# Altium schematic symbol library SEMATIK_LIB.SchLib: 632 symbols (part 21 of 21)
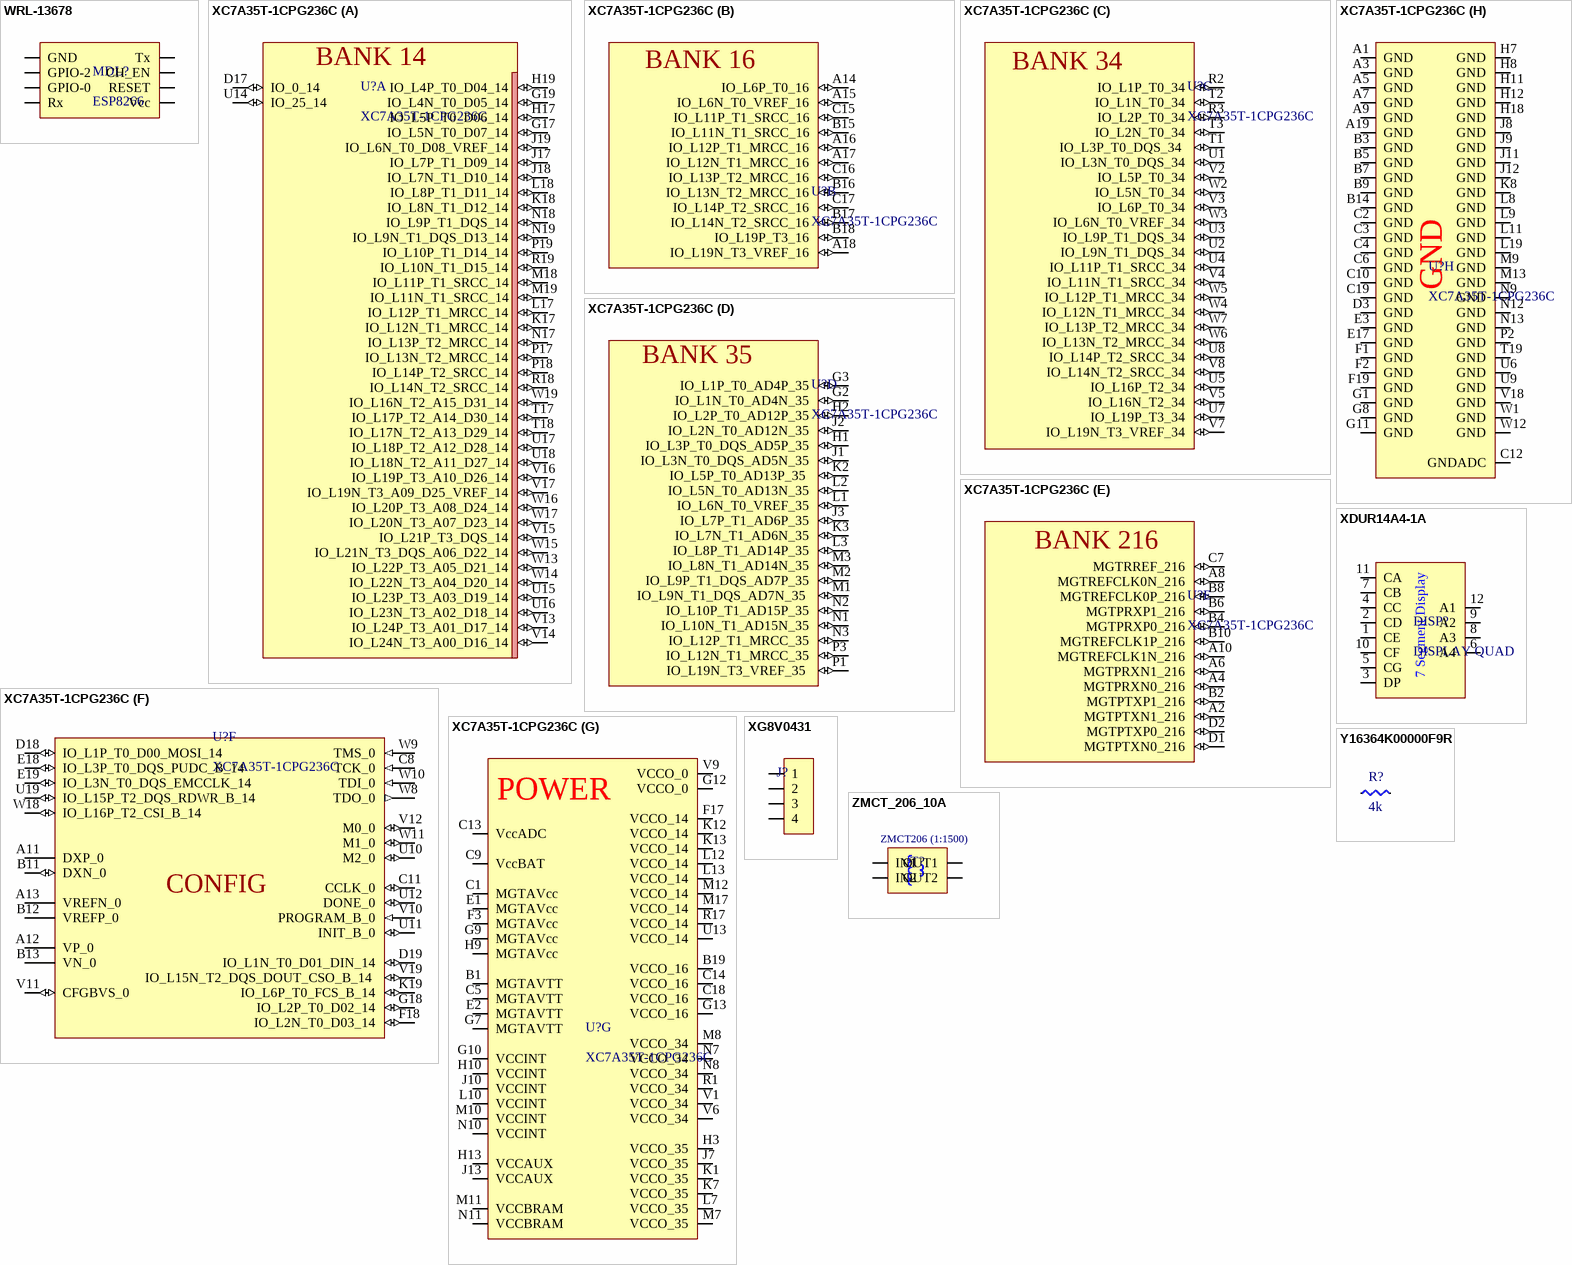
[diagram p36: symbols WRL-13678 to ZMCT_206_10A]

## XC7A35T-1CPG236C
designator U?
FPGA Artix-7 Family 33280 Cells 28nm Technology 1V 236-Pin CSBGA; Manufacturer: Xilinx; Propagation Delay: 1.09ns; Speed Grade: 1; Number of Logic Blocks (LABs): 2600; Number of Logic Elements/Cells: 33280; RAM Size: 1843200b; Number of I/Os: 106; Supplier 1: Digi-Key; Manufacturer Part Number: XC7A35T-1CPG236C; Stock 1: 318; Pricing 1: 1 = 40,04000 (USD); RoHS: Yes; Number of Pins: 236; Min Operating Temperature: 0°C; Max Operating Temperature: 85°C; Operating Supply Voltage: 1V; ComponentLink1URL: http://www.xilinx.com/support/documentation/data_sheets/ds181_Artix_7_Data_Sheet.pdf?src-supplier=Avnet; ComponentLink1Description: http://www.xilinx.com/support/documentation/data_sheets/ds181_Artix_7_Data_Sheet.pdf?src-supplier=Avnet; ComponentLink2URL: https://www.xilinx.com/support/documentation/data_sheets/ds180_7Series_Overview.pdf?src-supplier=Digi-Key; ComponentLink2Description: https://www.xilinx.com/support/documentation/data_sheets/ds180_7Series_Overview.pdf?src-supplier=Digi-Key; ComponentLink3URL: https://4donline.ihs.com/images/VipMasterIC/IC/XILI/XILI-S-A0003329933/XILI-S-A0003329933-1.pdf?hkey=6D3A4C79FDBF58556ACFDE234799DDF0&src-supplier=Newark; ComponentLink3Description: https://4donline.ihs.com/images/VipMasterIC/IC/XILI/XILI-S-A0003329933/XILI-S-A0003329933-1.pdf?hkey=6D3A4C79FDBF58556ACFDE234799DDF0&src-supplier=Newark; Supplier Part Number 1: 122-1907-ND
footprint BGA_CPG236
part A pins: D17 IO_0_14 (io), G17 IO_L5N_T0_D07_14 (io), G19 IO_L4N_T0_D05_14 (io), H17 IO_L5P_T0_D06_14 (io), H19 IO_L4P_T0_D04_14 (io), J17 IO_L7P_T1_D09_14 (io), J18 IO_L7N_T1_D10_14 (io), J19 IO_L6N_T0_D08_VREF_14 (io), K17 IO_L12N_T1_MRCC_14 (io), K18 IO_L8N_T1_D12_14 (io), L17 IO_L12P_T1_MRCC_14 (io), L18 IO_L8P_T1_D11_14 (io), M18 IO_L11P_T1_SRCC_14 (io), M19 IO_L11N_T1_SRCC_14 (io), N17 IO_L13P_T2_MRCC_14 (io), N18 IO_L9P_T1_DQS_14 (io), N19 IO_L9N_T1_DQS_D13_14 (io), P17 IO_L13N_T2_MRCC_14 (io), P18 IO_L14P_T2_SRCC_14 (io), P19 IO_L10P_T1_D14_14 (io), R18 IO_L14N_T2_SRCC_14 (io), R19 IO_L10N_T1_D15_14 (io), T17 IO_L17P_T2_A14_D30_14 (io), T18 IO_L17N_T2_A13_D29_14 (io), U14 IO_25_14 (io), U15 IO_L23P_T3_A03_D19_14 (io), U16 IO_L23N_T3_A02_D18_14 (io), U17 IO_L18P_T2_A12_D28_14 (io), U18 IO_L18N_T2_A11_D27_14 (io), V13 IO_L24P_T3_A01_D17_14 (io), V14 IO_L24N_T3_A00_D16_14 (io), V15 IO_L21P_T3_DQS_14 (io), V16 IO_L19P_T3_A10_D26_14 (io), V17 IO_L19N_T3_A09_D25_VREF_14 (io), W13 IO_L22P_T3_A05_D21_14 (io), W14 IO_L22N_T3_A04_D20_14 (io), W15 IO_L21N_T3_DQS_A06_D22_14 (io), W16 IO_L20P_T3_A08_D24_14 (io), W17 IO_L20N_T3_A07_D23_14 (io), W19 IO_L16N_T2_A15_D31_14 (io)
part B pins: A14 IO_L6P_T0_16 (io), A15 IO_L6N_T0_VREF_16 (io), A16 IO_L12P_T1_MRCC_16 (io), A17 IO_L12N_T1_MRCC_16 (io), A18 IO_L19N_T3_VREF_16 (io), B15 IO_L11N_T1_SRCC_16 (io), B16 IO_L13N_T2_MRCC_16 (io), B17 IO_L14N_T2_SRCC_16 (io), B18 IO_L19P_T3_16 (io), C15 IO_L11P_T1_SRCC_16 (io), C16 IO_L13P_T2_MRCC_16 (io), C17 IO_L14P_T2_SRCC_16 (io)
part C pins: R2 IO_L1P_T0_34 (io), R3 IO_L2P_T0_34 (io), T1 IO_L3P_T0_DQS_34  (io), T2 IO_L1N_T0_34 (io), T3 IO_L2N_T0_34 (io), U1 IO_L3N_T0_DQS_34 (io), U2 IO_L9N_T1_DQS_34 (io), U3 IO_L9P_T1_DQS_34 (io), U4 IO_L11P_T1_SRCC_34 (io), U5 IO_L16P_T2_34 (io), U7 IO_L19P_T3_34 (io), U8 IO_L14P_T2_SRCC_34 (io), V2 IO_L5P_T0_34 (io), V3 IO_L6P_T0_34 (io), V4 IO_L11N_T1_SRCC_34 (io), V5 IO_L16N_T2_34 (io), V7 IO_L19N_T3_VREF_34 (io), V8 IO_L14N_T2_SRCC_34 (io), W2 IO_L5N_T0_34 (io), W3 IO_L6N_T0_VREF_34 (io), W4 IO_L12N_T1_MRCC_34 (io), W5 IO_L12P_T1_MRCC_34 (io), W6 IO_L13N_T2_MRCC_34 (io), W7 IO_L13P_T2_MRCC_34 (io)
part D pins: G2 IO_L1N_T0_AD4N_35 (io), G3 IO_L1P_T0_AD4P_35 (io), H1 IO_L3P_T0_DQS_AD5P_35 (io), H2 IO_L2P_T0_AD12P_35 (io), J1 IO_L3N_T0_DQS_AD5N_35 (io), J2 IO_L2N_T0_AD12N_35 (io), J3 IO_L7P_T1_AD6P_35 (io), K2 IO_L5P_T0_AD13P_35  (io), K3 IO_L7N_T1_AD6N_35 (io), L1 IO_L6N_T0_VREF_35 (io), L2 IO_L5N_T0_AD13N_35 (io), L3 IO_L8P_T1_AD14P_35 (io), M1 IO_L9N_T1_DQS_AD7N_35  (io), M2 IO_L9P_T1_DQS_AD7P_35 (io), M3 IO_L8N_T1_AD14N_35 (io), N1 IO_L10N_T1_AD15N_35 (io), N2 IO_L10P_T1_AD15P_35 (io), N3 IO_L12P_T1_MRCC_35 (io), P1 IO_L19N_T3_VREF_35  (io), P3 IO_L12N_T1_MRCC_35 (io)
part E pins: A2 MGTPTXN1_216 (io), A4 MGTPRXN0_216 (io), A6 MGTPRXN1_216 (io), A8 MGTREFCLK0N_216 (io), A10 MGTREFCLK1N_216 (io), B2 MGTPTXP1_216 (io), B4 MGTPRXP0_216 (io), B6 MGTPRXP1_216 (io), B8 MGTREFCLK0P_216 (io), B10 MGTREFCLK1P_216 (io), C7 MGTRREF_216 (io), D1 MGTPTXN0_216 (io), D2 MGTPTXP0_216 (io)
part F pins: A11 DXP_0, A12 VP_0, A13 VREFN_0, B11 DXN_0 (io), B12 VREFP_0, B13 VN_0, C8 TCK_0 (in), C11 CCLK_0 (io), D18 IO_L1P_T0_D00_MOSI_14 (io), D19 IO_L1N_T0_D01_DIN_14 (io), E18 IO_L3P_T0_DQS_PUDC_B_14 (io), E19 IO_L3N_T0_DQS_EMCCLK_14 (io), F18 IO_L2N_T0_D03_14 (io), G18 IO_L2P_T0_D02_14 (io), K19 IO_L6P_T0_FCS_B_14 (io), U10 M2_0 (io), U11 INIT_B_0 (io), U12 DONE_0 (io), U19 IO_L15P_T2_DQS_RDWR_B_14 (io), V10 PROGRAM_B_0 (in), V11 CFGBVS_0 (io), V12 M0_0 (io), V19 IO_L15N_T2_DQS_DOUT_CSO_B_14  (io), W8 TDO_0 (out), W9 TMS_0 (in), W10 TDI_0 (in), W11 M1_0 (io), W18 IO_L16P_T2_CSI_B_14 (io)
part G pins: B1 MGTAVTT, B19 VCCO_16, C1 MGTAVcc, C5 MGTAVTT, C9 VccBAT, C13 VccADC, C14 VCCO_16, C18 VCCO_16, E1 MGTAVcc, E2 MGTAVTT, F3 MGTAVcc, F17 VCCO_14, G7 MGTAVTT, G9 MGTAVcc, G10 VCCINT, G12 VCCO_0, G13 VCCO_16, H3 VCCO_35, H9 MGTAVcc, H10 VCCINT, H13 VCCAUX, J7 VCCO_35, J10 VCCINT, J13 VCCAUX, K1 VCCO_35, K7 VCCO_35, K12 VCCO_14, K13 VCCO_14, L7 VCCO_35, L10 VCCINT, L12 VCCO_14, L13 VCCO_14, M7 VCCO_35, M8 VCCO_34, M10 VCCINT, M11 VCCBRAM, M12 VCCO_14, M17 VCCO_14, N7 VCCO_34, N8 VCCO_34, N10 VCCINT, N11 VCCBRAM, R1 VCCO_34, R17 VCCO_14, U13 VCCO_14, V1 VCCO_34, V6 VCCO_34, V9 VCCO_0
part H pins: A1 GND, A3 GND, A5 GND, A7 GND, A9 GND, A19 GND, B3 GND, B5 GND, B7 GND, B9 GND, B14 GND, C2 GND, C3 GND, C4 GND, C6 GND, C10 GND, C12 GNDADC, C19 GND, D3 GND, E3 GND, E17 GND, F1 GND, F2 GND, F19 GND, G1 GND, G8 GND, G11 GND, H7 GND, H8 GND, H11 GND, H12 GND, H18 GND, J8 GND, J9 GND, J11 GND, J12 GND, K8 GND, L8 GND, L9 GND, L11 GND, L19 GND, M9 GND, M13 GND, N9 GND, N12 GND, N13 GND, P2 GND, T19 GND, U6 GND, U9 GND, V18 GND, W1 GND, W12 GND
part A text: BANK 14
part B text: BANK 16
part C text: BANK 34
part D text: BANK 35
part E text: BANK 216
part F text: CONFIG
part G text: POWER

## XDUR14A4-1A
designator DISP?, comment DISPLAY QUAD
DISP 7SEG 0.56" QUAD RED 12DIP; Manufacturer: SunLED; Manufacturer Part Number: XDUR14A4-1A; Number of Characters: 4; Forward Voltage: 1.9V; Test Current: 10mA; Luminous Intensity: 2mcd; Max Power Dissipation: 75mW; Supplier 1: Digi-Key; Stock 1: 0; Pricing 1: 2000 = 2,01960 (USD); RoHS: Yes; Case/Package: DIP; Color: Red; Packaging: Rail/Tube; Height: 0.748inch; Width: 1.98inch; ComponentLink1URL: http://www.sunledusa.com/products/spec/XDUR14A4-1A.pdf?src-supplier=Digi-Key; ComponentLink1Description: http://www.sunledusa.com/products/spec/XDUR14A4-1A.pdf?src-supplier=Digi-Key; Supplier Part Number 1: XDUR14A4-1A-ND
footprint SEVENSEGMENTDISPLAY_QUAD
pins: 1 CE, 2 CD, 3 DP, 4 CC, 5 CG, 6 A4, 7 CB, 8 A3, 9 A2, 10 CF, 11 CA, 12 A1
text: 7 Segment Display

## XG8V0431
designator J?, comment Header_1x4_100mil_male  (value not drawn)
Conn Unshrouded Header PL 4 POS 2.54mm Solder ST Thru-Hole; Manufacturer: Omron; Manufacturer Part Number: XG8V0431; Number of Positions: 4; Connector Type: Male Pin; Pitch: 0.1inch; Supplier 1: Digi-Key; Stock 1: 853; Pricing 1: 1=0.28, 10=0.26, 100=0.1821, 500=0.15612, 1000=0.1301, 5000=0.11151, 10000=0.10738 (USD); Mount: Through Hole; Contact Plating: Gold; Color: Black; Packaging: Bulk; Number of Rows: 1; Termination: Solder; Contact Mating Length: 0.236inch; Supplier Part Number 1: Z8748-ND
footprint 1x4_100mil_connector_male
pins: 1, 2, 3, 4

## Y16364K00000F9R
designator R?, comment 4k
RES SMD 4K OHM 1% 1/10W 0603; Manufacturer: VPG Foil Resistors; Manufacturer Part Number: Y16364K00000F9R; Max Power Dissipation: 100mW; Temperature Coefficient: 0.2ppm/°C; Resistance: 4kR; Supplier 1: Digi-Key; Stock 1: 0; Pricing 1: 1000 = 4,72500 (USD); RoHS: Yes; Case/Package: 0603; Min Operating Temperature: -55°C; Max Operating Temperature: 150°C; Composition: Metal Foil; Number of Terminations: 2; Features: Moisture Resistant; Package Quantity: 1000; Packaging: Tape and Reel; Tolerance: 1%; Length: 0.063inch; Height: 0.025inch; Width: 0.032inch; ComponentLink1URL: https://datasheet.ciiva.com/18610/vsmp-18610181.pdf?src-supplier=Digi-Key; ComponentLink1Description: https://datasheet.ciiva.com/18610/vsmp-18610181.pdf?src-supplier=Digi-Key; Supplier Part Number 1: Y16364K00000F9R-ND
footprint R_0603
footprint R_0603_short_silk
footprint R_0603_nosılk
pins: 1, 2

## ZMCT_206_10A
designator T?, comment ZMCT206-1500  (value not drawn)
CURRENT TRANSFORMATOR 1:1500; Manufacturer 1: Pulse Electronics; Manufacturer Part Number 1: FIS121NL; Current Rating: 15A; Turns Ratio: 1:200; Inductance: 94.5mH; DC Resistance (DCR): 4.5R; Test Frequency: 10kHz; Lead/Base Style: Radial; Supplier 1: Arrow; Stock 1: 0; Mount: Through Hole; Case/Package: 200; Package Quantity: 50; Packaging: Rail/Tube; Termination: PC Pin; Military Standard: Not; Length: 17.2mm; Height: 12mm; Width: 9.53mm; Height - Seated (Max): 20.4mm; Lead Pitch: 12.7mm; Depth: 9.53mm; Radiation Hardening: No; ComponentLink1URL: http://productfinder.pulseeng.com/products/datasheets/P524.pdf?src-supplier=Digi-Key; ComponentLink1Description: http://productfinder.pulseeng.com/products/datasheets/P524.pdf?src-supplier=Digi-Key; Supplier Part Number 1: FIS121NL
footprint ZMCT206_10A_1
pins: 1 IN1, 2 IN2, 3 OUT1, 4 OUT2
text: ZMCT206 (1:1500)